# Altium schematic symbol library TCAN3413DDFR.SchLib: 1 symbol
Pins are listed as number, name and electrical type; pins without a type are passive.

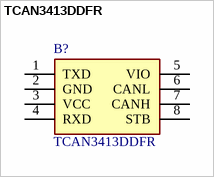
[diagram p0: symbol TCAN3413DDFR]

## TCAN3413DDFR
designator B?
CAN Interface IC 3.3-V CAN FD transceiver with flexible IO and standby mode; Manufacturer_Name: Texas Instruments; Geometry.Height: 1.1mm; Manufacturer_Part_Number: TCAN3413DDFR; Mouser Part Number: 595-TCAN3413DDFR; Mouser Price/Stock: https://www.mouser.co.uk/ProductDetail/Texas-Instruments/TCAN3413DDFR?qs=HFfMDpzxxd24T7a%252BDNN43w%3D%3D; Arrow Part Number: TCAN3413DDFR; Arrow Price/Stock: https://www.arrow.com/en/products/tcan3413ddfr/texas-instruments?region=nac; Datasheet Link: https://www.ti.com/lit/gpn/tcan3413
footprint SOT65P280X110-8N
pins: 1 TXD, 2 GND, 3 VCC, 4 RXD, 5 VIO, 6 CANL, 7 CANH, 8 STB